# Altium integrated library DX07S024WJ3R400.IntLib: 2 symbols
Pins are listed as number, name and electrical type; pins without a type are passive.

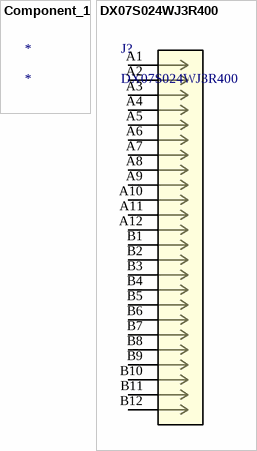
[diagram p0: symbols Component_1 to DX07S024WJ3R400]

## Component_1
designator *

## DX07S024WJ3R400
designator J?
No Description Available; Vendor: JAE Electronics; Built_By: EMA_TJ; SourceLibrary: JAE_2019-01-31; Copyright: Copyright (C) 2018 Accelerated Designs. All rights reserved; Manufacturer_Part_Number: DX07S024WJ3R400; RefDes: RefDes; Type: DEV
footprint CONN_DX07S024WJ1R350_JAE
pins: A1, A2 B12, A3 A2, A4 B11, A5 A3, A6 B10, A7 A4, A8 B9, A9 A5, A10 B8, A11 A6, A12 B7, B1 A7, B2 B6, B3 A8, B4 B5, B5 A9, B6 B4, B7 A10, B8 B3, B9 A11, B10 B2, B11 A12, B12 B1